# EAGLE library part 43045-0612 (library my_electronics_library)
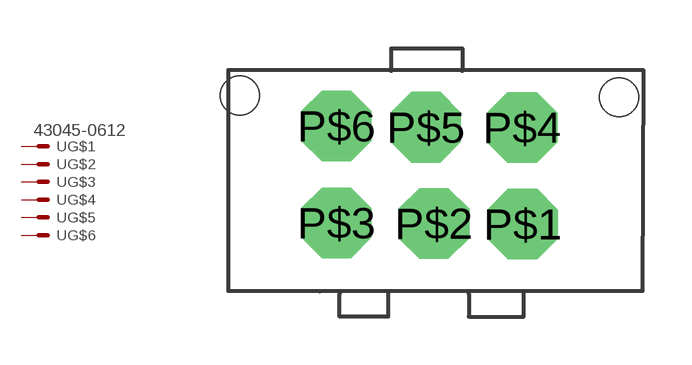
[diagram p1: symbol with the pads of PCB-43045-0612; footprint PCB-43045-0612]

Designator prefix -; gates G$1=MV G$2=M G$3=M G$4=M G$5=M G$6=M

## 43045-0612  [PCB-43045-0612]
P$1  G$1:S  pas
P$2  G$2:S  pas
P$3  G$3:S  pas
P$4  G$4:S  pas
P$5  G$5:S  pas
P$6  G$6:S  pas

## Footprint PCB-43045-0612 (pad centres in mm)
drill 1.2 pad 2.184 octagon: P$1 5.77,-1.54; P$2 3.02,-1.52; P$3 0,-1.5; P$4 5.75,1.45; P$5 2.77,1.46; P$6 0,1.5
hole 1.2 at -3,2.44
hole 1.2 at 8.75,2.39